# Altium footprint library LED_SMD.PcbLib: 8 footprints
Each footprint in its own frame and in the unit in brackets; x right, y up, seen from the top. Pads: shape width x height; smd on the part's side, far side on the other; paste and mask are expansions set on the pad; w line width, h text height; cw(c..) or ccw(c..) is an arc to the next point about the centre after c.
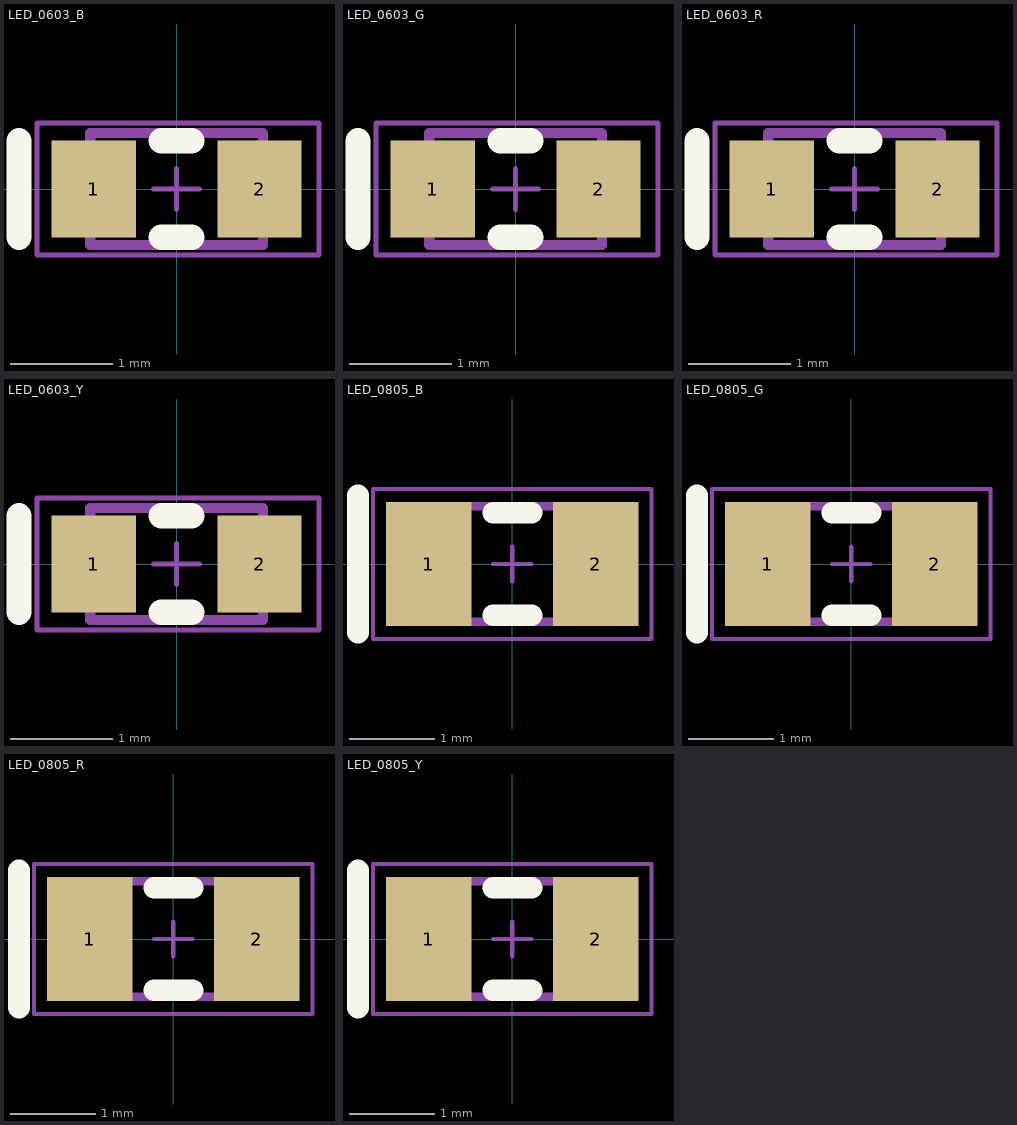
[diagram p0: the footprints below, top view; thin cyan lines are the x and y axes]

## LED_0603_B [mm] "LED BLUE SMD 0603."
pads (2):
  rect 0.83x0.95 smd: 1(-0.815,0) 2(0.815,0)
Top Overlay:
  lines w0.25: -1.55,-0.475 -1.55,0.475 ; -0.15,-0.475 0.15,-0.475 ; -0.15,0.475 0.15,0.475
Mechanical 13:
  lines w0.1: -0.85,-0.55 0.85,-0.55 0.85,0.55 -0.85,0.55 -0.85,-0.55
Mechanical 15:
  lines w0.05: -0.225,0 0.225,0 ; 0,-0.2 0,0.2 ; -1.375,-0.65 1.4,-0.65 1.4,0.65 -1.375,0.65 -1.375,-0.65
3D body "LED0603_BLUE.STEP": height 0.88, standoff 0, extent -0.808,-0.5 0.808,0.5

## LED_0603_G [mm] "LED GREEN SMD 0603."
pads (2):
  rect 0.83x0.95 smd: 1(-0.815,0) 2(0.815,0)
Top Overlay:
  lines w0.25: -1.55,-0.475 -1.55,0.475 ; -0.15,-0.475 0.15,-0.475 ; -0.15,0.475 0.15,0.475
Mechanical 13:
  lines w0.1: -0.85,-0.55 -0.85,0.55 0.85,0.55 0.85,-0.55 -0.85,-0.55
Mechanical 15:
  lines w0.05: -0.225,0 0.225,0 ; 0,-0.2 0,0.2 ; -1.375,-0.65 -1.375,0.65 1.4,0.65 1.4,-0.65 -1.375,-0.65
3D body "LED0603_GREEN.STEP": height 0.88, standoff 0, extent -0.808,-0.5 0.808,0.5

## LED_0603_R [mm] "LED RED SMD 0603."
pads (2):
  rect 0.83x0.95 smd: 1(-0.815,0) 2(0.815,0)
Top Overlay:
  lines w0.25: -1.55,-0.475 -1.55,0.475 ; -0.15,-0.475 0.15,-0.475 ; -0.15,0.475 0.15,0.475
Mechanical 13:
  lines w0.1: -0.85,-0.55 0.85,-0.55 0.85,0.55 -0.85,0.55 -0.85,-0.55
Mechanical 15:
  lines w0.05: -0.225,0 0.225,0 ; 0,-0.2 0,0.2 ; -1.375,-0.65 1.4,-0.65 1.4,0.65 -1.375,0.65 -1.375,-0.65
3D body "LED0603_RED.STEP": height 0.88, standoff 0, extent -0.808,-0.5 0.808,0.5

## LED_0603_Y [mm] "LED YELLOW SMD 0603."
pads (2):
  rect 0.83x0.95 smd: 1(-0.815,0) 2(0.815,0)
Top Overlay:
  lines w0.25: -1.55,-0.475 -1.55,0.475 ; -0.15,-0.475 0.15,-0.475 ; -0.15,0.475 0.15,0.475
Mechanical 13:
  lines w0.1: -0.85,-0.55 0.85,-0.55 0.85,0.55 -0.85,0.55 -0.85,-0.55
Mechanical 15:
  lines w0.05: -0.225,0 0.225,0 ; 0,-0.2 0,0.2 ; -1.375,-0.65 1.4,-0.65 1.4,0.65 -1.375,0.65 -1.375,-0.65
3D body "LED0603_YELLOW.STEP": height 0.88, standoff 0, extent -0.808,-0.5 0.808,0.5

## LED_0805_B [mm] "LED BLUE SMD 0805."
height 0.9
pads (2):
  rect 1x1.45 smd: 1(-0.975,0) 2(0.975,0)
Top Overlay:
  lines w0.25: -0.225,-0.6 0.225,-0.6 ; -0.225,0.6 0.225,0.6
  lines w0.254: -1.8,-0.8 -1.8,0.8
Mechanical 13:
  lines w0.1: -1.05,-0.675 1.05,-0.675 1.05,0.675 -1.05,0.675 -1.05,-0.675
Mechanical 15:
  lines w0.05: -0.225,0 0.225,0 ; 0,-0.2 0,0.2 ; -1.625,-0.875 1.625,-0.875 1.625,0.875 -1.625,0.875 -1.625,-0.875
3D body "LED0805_BLUE.STEP": height 1.1, standoff 0, extent -1.01,-0.625 1.01,0.625

## LED_0805_G [mm] "LED GREEN SMD 0805."
height 0.9
pads (2):
  rect 1x1.45 smd: 1(-0.975,0) 2(0.975,0)
Top Overlay:
  lines w0.25: -0.225,-0.6 0.225,-0.6 ; -0.225,0.6 0.225,0.6
  lines w0.254: -1.8,-0.8 -1.8,0.8
Mechanical 13:
  lines w0.1: -1.05,-0.675 1.05,-0.675 1.05,0.675 -1.05,0.675 -1.05,-0.675
Mechanical 15:
  lines w0.05: -0.225,0 0.225,0 ; 0,-0.2 0,0.2 ; -1.625,-0.875 1.625,-0.875 1.625,0.875 -1.625,0.875 -1.625,-0.875
3D body "LED0805_GREEN.STEP": height 1.1, standoff 0, extent -1.01,-0.625 1.01,0.625

## LED_0805_R [mm] "LED RED SMD 0805."
height 0.9
pads (2):
  rect 1x1.45 smd: 1(-0.975,0) 2(0.975,0)
Top Overlay:
  lines w0.25: -0.225,-0.6 0.225,-0.6 ; -0.225,0.6 0.225,0.6
  lines w0.254: -1.8,-0.8 -1.8,0.8
Mechanical 13:
  lines w0.1: -1.05,-0.675 -1.05,0.675 1.05,0.675 1.05,-0.675 -1.05,-0.675
Mechanical 15:
  lines w0.05: -0.225,0 0.225,0 ; 0,-0.2 0,0.2 ; -1.625,-0.875 -1.625,0.875 1.625,0.875 1.625,-0.875 -1.625,-0.875
3D body "LED0805_RED.STEP": height 1.1, standoff 0, extent -1.01,-0.625 1.01,0.625

## LED_0805_Y [mm] "LED YELLOW SMD 0805."
height 0.9
pads (2):
  rect 1x1.45 smd: 1(-0.975,0) 2(0.975,0)
Top Overlay:
  lines w0.25: -0.225,-0.6 0.225,-0.6 ; -0.225,0.6 0.225,0.6
  lines w0.254: -1.8,-0.8 -1.8,0.8
Mechanical 13:
  lines w0.1: -1.05,-0.675 -1.05,0.675 1.05,0.675 1.05,-0.675 -1.05,-0.675
Mechanical 15:
  lines w0.05: -0.225,0 0.225,0 ; 0,-0.2 0,0.2 ; -1.625,-0.875 -1.625,0.875 1.625,0.875 1.625,-0.875 -1.625,-0.875
3D body "LED0805_YELLOW.STEP": height 1.1, standoff 0, extent -1.01,-0.625 1.01,0.625